# Altium footprint library Connector-Ethernet.PcbLib: 13 footprints
Each footprint in its own frame and in the unit in brackets; x right, y up, seen from the top. Pads: shape width x height; smd on the part's side, far side on the other; paste and mask are expansions set on the pad; w line width, h text height; cw(c..) or ccw(c..) is an arc to the next point about the centre after c.
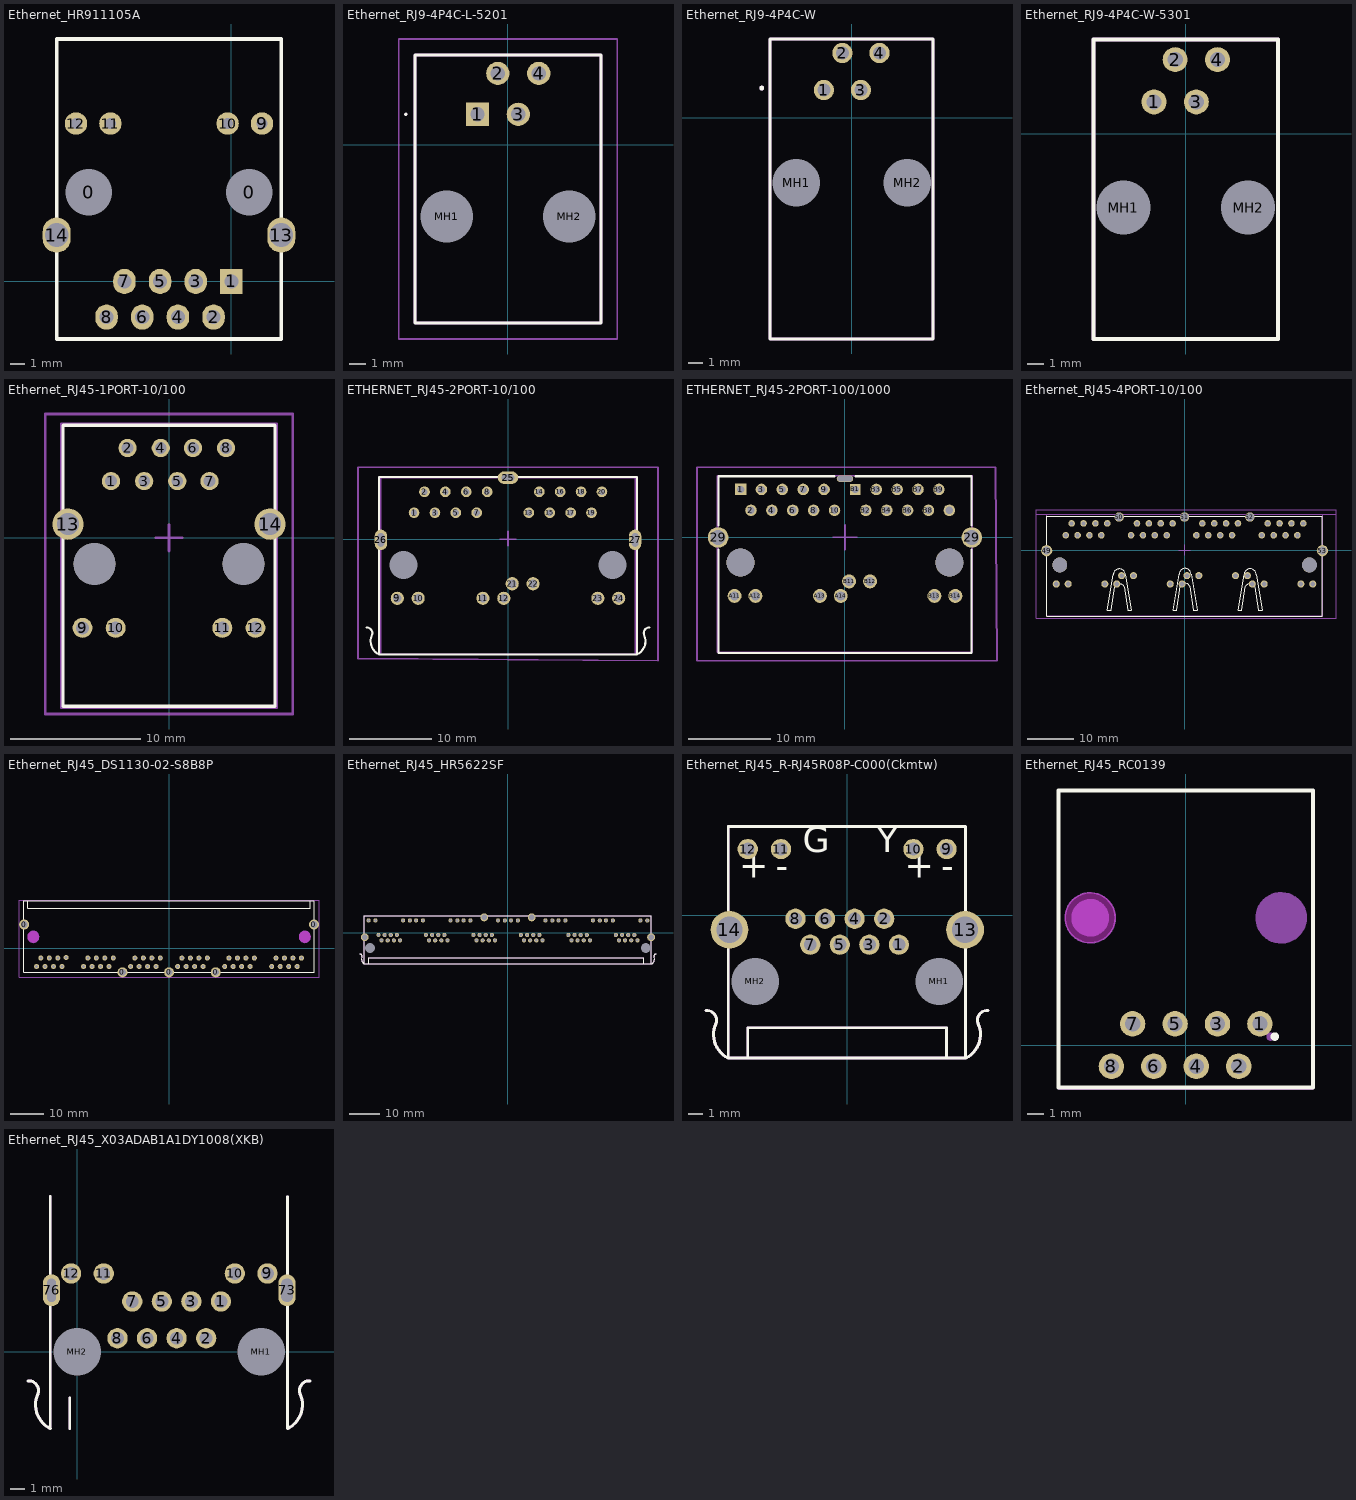
[diagram p0: the footprints below, top view; thin cyan lines are the x and y axes]

## Ethernet_HR911105A [mm]
pads (16):
  round 3.2 hole 3.3: 0(-10.16,6.35) 0(1.27,6.35)
  rect 1.6x1.8 hole 1: 1(0,0)
  oval 1.6x1.8 hole 1: 2(-1.27,-2.54) 3(-2.54,0) 4(-3.81,-2.54) 5(-5.08,0) 6(-6.35,-2.54) 7(-7.62,0) 8(-8.89,-2.54)
  round 1.6 hole 0.8: 9(2.18,11.25) 10(-0.27,11.25) 11(-8.62,11.25) 12(-11.07,11.25)
  oval 2x2.5 hole 1.7: 13(3.555,3.3) 14(-12.445,3.3)
Top Overlay:
  lines w0.254: 3.555,14.4 3.555,-4.1 ; -12.445,-4.1 -12.445,17.27 ; -12.445,-4.1 -12.445,14.4 -12.445,17.27 ; -12.445,-4.1 3.555,-4.1 ; -12.445,17.27 3.555,17.27 3.555,-4.1
Top Value:
  text "'.Comment'" at -13.178,7.111 h4
Top Designator:
  text "'.Designator'" at -16.084,7.138 h4
3D body "HR911105A.STEP": height 13.6, standoff -2.9, extent -12.324,-4.223 3.556,17.177

## Ethernet_RJ9-4P4C-L-5201 [mm] "RJ11/RJ9-4P4C 立式 EVERCOM(恒连) 5201-440111"
pads (6):
  rect 1.446x1.446 hole 0.89: 1(-1.9,1.905)
  round 1.446 hole 0.89: 2(-0.63,4.445) 3(0.64,1.905) 4(1.91,4.445)
  round 1.625 hole 3.25 unplated: MH1(-3.81,-4.445) MH2(3.81,-4.445)
Top Overlay:
  lines w0.1: -6.4,1.905 ccw(c-6.35,1.905) -6.3,1.905 ccw(c-6.35,1.905) -6.4,1.905
  lines w0.2: -5.78,-11.055 5.78,-11.055 5.78,5.585 -5.78,5.585 -5.78,-11.055
Top Value:
  text "'.Comment'" at 0.989,-10.273 h4
Top Designator:
  text "'.Designator'" at 0.692,-13.089 h4
Top Courtyard:
  lines w0.1: -6.78,-12.055 6.78,-12.055 6.78,6.585 -6.78,6.585 -6.78,-12.055
Top Assembly (Mech20):
  lines w0.1: -6.4,1.905 ccw(c-6.35,1.905) -6.3,1.905 ccw(c-6.35,1.905) -6.4,1.905
  lines w0.2: -5.78,-11.055 5.78,-11.055 5.78,5.585 -5.78,5.585 -5.78,-11.055
3D body "5558872-1.stp": height 16.3, standoff -3.51, extent -5.715,-10.99 5.715,5.52

## Ethernet_RJ9-4P4C-W [mm] "95009-7441,RJ9-4P4C 弯头"
pads (6):
  round 1.39 hole 0.89: 1(-1.905,1.905) 2(-0.635,4.445) 3(0.635,1.905) 4(1.905,4.445)
  round 2 hole 3.25 unplated: MH1(-3.81,-4.445) MH2(3.81,-4.445)
Top Overlay:
  circle w0.2: c-6.165,2.04 r0.066
  lines w0.2: -5.59,-15.165 5.59,-15.165 5.59,5.405 -5.59,5.405 -5.59,-15.165
Top Value:
  text "'.Comment'" at -0.739,5.858 h4
Top Designator:
  text "'.Designator'" at -0.442,8.674 h4
Top Assembly (Mech20):
  circle w0.2: c-6.165,2.04 r0.066
  lines w0.2: -5.59,-15.165 5.59,-15.165 5.59,5.405 -5.59,5.405 -5.59,-15.165
3D body "95009-7441.stp": height 15.89, standoff -3.56, extent -6.5,-15.115 6.38,5.455

## Ethernet_RJ9-4P4C-W-5301 [mil] "RJ11/RJ9 4P4 弯头 EVERCOM(恒连) 5301-4P4C"
pads (6):
  round 59 hole 36 mask+2: 1(-75,75) 2(-25,175) 3(25,75) 4(75,175)
  round 78.74 hole 127.95 unplated: MH1(-147.64,-175) MH2(147.64,-175)
Top Overlay:
  lines w10: -218.5,-486.02 218.5,-486.02 218.5,222.64 -218.5,222.64 -218.5,-486.02
Top Value:
  text "'.Comment'" at -38.94,220.58 h157.48
Top Designator:
  text "'.Designator'" at -27.25,331.46 h157.48
Bottom Courtyard:
  region: 219.69,221.46 219.69,222.44 218.3,223.82 216.35,223.82 214.96,222.44 214.96,221.46 214.96,220.48 216.35,219.1 218.3,219.1 219.69,220.48 219.69,221.46
  region: 87.6,175 87.6,177.51 85.68,182.14 82.14,185.68 77.51,187.6 72.49,187.6 67.86,185.68 64.32,182.14 62.4,177.51 62.4,175 62.4,172.49 64.32,167.86 67.86,164.32 72.49,162.4 77.51,162.4 82.14,164.32 85.68,167.86 87.6,172.49 87.6,175
  region: -12.4,175 -12.4,177.51 -14.32,182.14 -17.86,185.68 -22.49,187.6 -27.51,187.6 -32.14,185.68 -35.68,182.14 -37.6,177.51 -37.6,175 -37.6,172.49 -35.68,167.86 -32.14,164.32 -27.51,162.4 -22.49,162.4 -17.86,164.32 -14.32,167.86 -12.4,172.49 -12.4,175
  region: 37.6,75 37.6,77.51 35.68,82.14 32.14,85.68 27.51,87.6 22.49,87.6 17.86,85.68 14.32,82.14 12.4,77.51 12.4,75 12.4,72.49 14.32,67.86 17.86,64.32 22.49,62.4 27.51,62.4 32.14,64.32 35.68,67.86 37.6,72.49 37.6,75
  region: -62.4,75 -62.4,77.51 -64.32,82.14 -67.86,85.68 -72.49,87.6 -77.51,87.6 -82.14,85.68 -85.68,82.14 -87.6,77.51 -87.6,75 -87.6,72.49 -85.68,67.86 -82.14,64.32 -77.51,62.4 -72.49,62.4 -67.86,64.32 -64.32,67.86 -62.4,72.49 -62.4,75
  lines w2: 218.5,-486.02 -218.5,-486.02 -218.5,222.64 218.5,222.64
Top Assembly (Mech20):
  lines w10: -218.5,-486.02 218.5,-486.02 218.5,222.64 -218.5,222.64 -218.5,-486.02
3D body "User Library-RJ 4p4c.STEP": height 466.54, standoff -127.95, extent -220.08,-485 220.08,223.66

## Ethernet_RJ45-1PORT-10/100 [mm] "21.5X16.26-H13.6"
pads (16):
  round 1.4 hole 0.9: 1(-4.445,4.355) 2(-3.175,6.895) 3(-1.905,4.355) 4(-0.635,6.895) 5(0.635,4.355) 6(1.835,6.895) 7(3.105,4.355) 8(4.375,6.895)
  round 1.524 hole 1: 9(-6.63,-6.895) 10(-4.09,-6.895) 11(4.09,-6.895) 12(6.63,-6.895)
  round 2.4 hole 1.7: 13(-7.75,1.055) 14(7.75,1.055)
  round 3.2 hole 3.2 unplated: ""(-5.715,-1.995) ""(5.715,-1.995)
Top Overlay:
  lines w0.254: -8.128,-12.914 8.13,-12.914 8.13,8.636 -8.128,8.636 -8.128,-12.914
Top Component Outline:
  lines w0.2: -8.25,-13 -8.25,8.75 8.25,8.75 8.25,-13 -8.25,-13
Top Value:
  text "'.Comment'" at -8.678,-1.139 h4
Top Designator:
  text "'.Designator'" at -11.494,-0.842 h4
Top Courtyard:
  lines w0.2: -9.5,-13.5 -9.5,9.5 9.5,9.5 9.5,-13.5 -9.5,-13.5
Top Assembly (Mech20):
  lines w0.2: -1,0 1,0 ; 0,-1 0,1 ; -8.25,-13 -8.25,8.75 8.25,8.75 8.25,-13 -8.25,-13
3D body "HR911105A.STEP": height 13.6, standoff -2.9, extent -8.001,-12.822 7.879,8.578

## ETHERNET_RJ45-2PORT-10/100 [mm] "RJ45-TH_HR911205C,带灯,带变压器"
pads (29):
  round 1.3 hole 0.75: 1(-11.43,3.235) 2(-10.16,5.775) 3(-8.89,3.235) 4(-7.62,5.775) 5(-6.35,3.235) 6(-5.08,5.775) 7(-3.81,3.235) 8(-2.54,5.775) 13(2.538,3.235) 14(3.808,5.775) 15(5.078,3.235) 16(6.348,5.775) 17(7.618,3.235) 18(8.888,5.775) 19(10.158,3.235) 20(11.428,5.775)
  round 1.6 hole 1: 9(-13.47,-7.175) 10(-10.93,-7.175) 11(-3.05,-7.175) 12(-0.51,-7.175) 21(0.51,-5.405) 22(3.05,-5.405) 23(10.93,-7.175) 24(13.47,-7.175)
  oval 2.5x1.5 hole 0.8 slot 1.5 at 0 deg: 25(0,7.5)
  oval 1.5x2.5 hole 0.8 slot 1.63 at 90 deg: 26(-15.465,-0.065) 27(15.465,-0.065)
  round 3 hole 3.4 unplated: ""(-12.7,-3.115) ""(12.7,-3.115)
Top Overlay:
  lines w0.254: -17.23,-10.72 cw(c-17.181,-11.392) -16.542,-11.603 ; -16.54,-11.6 ccw(c-14.885,-12.374) -15.692,-14.013 ; -15.7,7.485 -15.7,-14.015 15.7,-14.015 15.7,7.585 -15.7,7.585 ; 15.701,-14.008 ccw(c14.894,-12.369) 16.549,-11.594 ; 16.551,-11.598 cw(c17.19,-11.386) 17.239,-10.714
Top Component Outline:
  lines w0.2: -15.5,-14 -15.5,7.5 ; -15.5,-14 15.5,-14 ; -15.5,-14 -15.5,7.5 ; -15.5,-14 15.5,-14 ; -15.5,7.5 15.5,7.5 ; -15.5,7.5 15.5,7.5 ; 15.5,-14 15.5,7.5 ; 15.5,-14 15.5,7.5
Top Value:
  text "'.Comment'" at -8.678,-1.224 h4
Top Designator:
  text "'.Designator'" at -11.494,-0.927 h4
Top Courtyard:
  lines w0.2: -18.25,-14.5 -18.25,8.75 18.25,8.75 18.25,-14.75 -18.25,-14.5
Top Assembly (Mech20):
  lines w0.2: -1,0 1,0 ; 0,-0.75 0,1 ; -15.5,-14 -15.5,7.5 15.5,7.5 15.5,-14 -15.5,-14
3D body "c-2337994-4-a-3d.stp": height 15.18, standoff -3.75, extent -17.3,-13.75 17.3,7.6

## ETHERNET_RJ45-2PORT-100/1000 [mm] "带灯，带变压器"
pads (33):
  rect 1.4x1.4 hole 0.9: 1(-12.7,5.82)
  round 1.4 hole 0.9: 2(-11.43,3.28) 3(-10.16,5.82) 4(-8.89,3.28) 5(-7.62,5.82) 6(-6.35,3.28) 7(-5.08,5.82) 8(-3.81,3.28) 9(-2.54,5.82) 10(-1.27,3.28) B2(2.54,3.28) B3(3.81,5.82) B4(5.08,3.28) B5(6.35,5.82) B6(7.62,3.28) B7(8.89,5.82) B8(10.16,3.28) B9(11.43,5.82) B10(12.7,3.28)
  round 2.5 hole 1.8: 29(-15.435,-0.02) 29(15.435,-0.02)
  oval 2x0.8 hole 0.6 slot 1.8 at 0 deg: 29(0,7.13)
  round 1.7 hole 1.1: A11(-13.43,-7.13) A12(-10.89,-7.13) A13(-3.05,-7.13) A14(-0.51,-7.13) B11(0.51,-5.36) B12(3.05,-5.36) B13(10.89,-7.13) B14(13.43,-7.13)
  rect 1.3x1.3 hole 0.9: B1(1.27,5.82)
  round 3.4 hole 3.4 unplated: ""(-12.7,-3.07) ""(12.7,-3.07)
Top Overlay:
  lines w0.254: -15.4,-1.501 -15.4,-14.07 15.4,-14.07 15.4,-1.501 ; -15.4,1.461 -15.4,7.43 -1.267,7.43 ; 1.267,7.43 15.4,7.43 15.4,1.461
Top Component Outline:
  lines w0.2: -15.5,-14 -15.5,7.5 15.5,7.5 15.5,-14 -15.5,-14
Top Value:
  text "'.Comment'" at -8.678,-1.159 h4
Top Designator:
  text "'.Designator'" at -11.494,-0.862 h4
Top Courtyard:
  lines w0.2: -18,-15 18.5,-15 18.312,8.5 -18,8.5 -18,-15
Top Assembly (Mech20):
  lines w0.2: -1.5,0 1.5,0 ; 0,-1.5 0,1.5 ; -15.5,-14 15.5,-14 15.5,7.5 -15.5,7.5 -15.5,-14
3D body "c-5-2337994-4-a-3d.stp": height 15.18, standoff -3.75, extent -17.3,-13.857 17.3,7.493

## Ethernet_RJ45-4PORT-10/100 [mm] "21.5X59.12-H13.6"
pads (55):
  round 1.4 hole 0.9: 1(-25.4,3.255) 2(-24.13,5.795) 3(-22.86,3.255) 4(-21.59,5.795) 5(-20.32,3.255) 6(-19.05,5.795) 7(-17.78,3.255) 8(-16.51,5.795) 13(-11.43,3.255) 14(-10.16,5.795) 15(-8.89,3.255) 16(-7.62,5.795) 17(-6.35,3.255) 18(-5.08,5.795) 19(-3.81,3.255) 20(-2.54,5.795) 25(2.54,3.255) 26(3.81,5.795) 27(5.08,3.255) 28(6.35,5.795) 29(7.62,3.255) 30(8.89,5.795) 31(10.16,3.255) 32(11.43,5.795) 37(16.51,3.255) 38(17.78,5.795) 39(19.05,3.255) 40(20.32,5.795) 41(21.59,3.255) 42(22.86,5.795) 43(24.13,3.255) 44(25.4,5.795)
  round 1.524 hole 1: 9(-27.42,-7.155) 10(-24.88,-7.155) 11(-17.03,-7.155) 12(-14.49,-7.155) 21(-13.45,-5.375) 22(-10.91,-5.375) 23(-3.06,-7.155) 24(-0.52,-7.155) 33(0.52,-5.375) 34(3.06,-5.375) 35(10.91,-5.375) 36(13.45,-5.375) 45(14.49,-7.155) 46(17.03,-7.155) 47(24.88,-7.155) 48(27.42,-7.155)
  round 2.4 hole 1.7: 49(-29.465,-0.045) 53(29.465,-0.045)
  round 2 hole 1.7: 50(-13.97,7.155) 51(0,7.155) 52(13.97,7.155)
  round 3.2 hole 3.2 unplated: ""(-26.67,-3.095) ""(26.67,-3.095)
Top Overlay:
  lines w0.254: -1.27,7.322 29.464,7.322 29.464,-14.014 -29.464,-14.014 -29.464,7.322 0,7.322 ; -16.475,-12.818 -15.713,-12.818 -14.951,-7.738 cw(c-13.935,-8.246) -12.919,-7.738 -12.156,-12.818 -11.395,-12.818 -12.664,-5.198 ccw(c-13.935,-5.198) -15.205,-5.198 -16.474,-12.818 ; -2.411,-12.724 -1.649,-12.724 -0.887,-7.644 cw(c0.129,-8.152) 1.145,-7.644 1.907,-12.724 2.669,-12.724 1.399,-5.104 ccw(c0.129,-5.104) -1.141,-5.104 -2.411,-12.724 ; 11.493,-12.79 12.255,-12.79 13.017,-7.71 cw(c14.033,-8.218) 15.049,-7.71 15.811,-12.79 16.573,-12.79 15.303,-5.17 ccw(c14.033,-5.17) 12.763,-5.17 11.493,-12.79
Top Component Outline:
  lines w0.152: -29.5,-14 -29.5,7.7 29.5,7.7 29.5,-14 -29.5,-14
Top Value:
  text "'.Comment'" at -8.678,-1.139 h4
Top Designator:
  text "'.Designator'" at -11.494,-0.842 h4
Top Courtyard:
  lines w0.152: -31.75,-14.525 -31.75,8.75 32.385,8.75 32.385,-14.525 -31.75,-14.525
Top Assembly (Mech20):
  lines w0.152: -31.75,-14.525 -31.75,7.7 32.385,7.7 32.385,-14.525 -31.75,-14.525
  lines w0.2: -1.25,0 1.25,0 ; 0,-1 0,1.25
3D body "64F-1204GYD2NL--20191216.stp": height 2.95, standoff -15.85, extent -31.333,-14.017 31.587,7.483

## Ethernet_RJ45_DS1130-02-S8B8P [mm]
pads (53):
  round 3 hole 2 mask+0.051: 0(-43.375,7.155) 0(-13.97,-7.155) 0(0,-7.155) 0(13.97,-7.155) 0(43.375,7.155)
  round 1.5 hole 0.9 mask+0.051: 1(-39.68,-5.415) 2(-38.41,-2.875) 3(-37.14,-5.415) 4(-35.87,-2.875) 5(-34.6,-5.415) 6(-33.33,-2.875) 7(-32.06,-5.415) 8(-30.831,-2.705) 9(-25.601,-5.415) 10(-24.331,-2.875) 11(-23.061,-5.415) 12(-21.791,-2.875) 13(-20.521,-5.415) 14(-19.251,-2.875) 15(-17.981,-5.415) 16(-16.711,-2.875) 17(-11.519,-5.415) 18(-10.249,-2.875) 19(-8.979,-5.415) 20(-7.709,-2.875) 21(-6.439,-5.415) 22(-5.169,-2.875) 23(-3.899,-5.415) 24(-2.629,-2.875) 25(2.56,-5.415) 26(3.83,-2.875) 27(5.1,-5.415) 28(6.37,-2.875) 29(7.64,-5.415) 30(8.91,-2.875) 31(10.18,-5.415) 32(11.45,-2.875) 33(16.64,-5.415) 34(17.91,-2.875) 35(19.18,-5.415) 36(20.45,-2.875) 37(21.72,-5.415) 38(22.99,-2.875) 39(24.26,-5.415) 40(25.53,-2.875) 41(30.719,-5.415) 42(31.989,-2.875) 43(33.259,-5.415) 44(34.529,-2.875) 45(35.799,-5.415) 46(37.069,-2.875) 47(38.339,-5.415) 48(39.609,-2.875)
Top Overlay:
  lines w0.254: -42.27,14.226 -42.27,11.976 42.27,11.976 42.27,14.226 ; -43.5,-7.154 43.494,-7.154 43.494,14.246 -43.5,14.246 -43.5,-7.154
Keep-Out Layer:
  board cut-out: 38.94,3.475 38.94,3.308 39.005,2.979 39.133,2.67 39.32,2.391 39.556,2.154 39.835,1.968 40.144,1.84 40.473,1.775 40.64,1.775 40.807,1.775 41.136,1.84 41.445,1.968 41.724,2.154 41.96,2.391 42.147,2.67 42.275,2.979 42.34,3.308 42.34,3.475 42.34,3.642 42.275,3.971 42.147,4.28 41.96,4.559 41.724,4.795 41.445,4.981 41.136,5.11 40.807,5.175 40.64,5.175 40.473,5.175 40.144,5.11 39.835,4.981 39.556,4.795 39.32,4.559 39.133,4.28 39.005,3.971 38.94,3.642
  board cut-out: -40.64,1.775 -40.807,1.775 -41.136,1.84 -41.445,1.968 -41.724,2.154 -41.96,2.391 -42.147,2.67 -42.275,2.979 -42.34,3.308 -42.34,3.475 -42.34,3.642 -42.275,3.971 -42.147,4.28 -41.96,4.559 -41.724,4.795 -41.445,4.981 -41.136,5.11 -40.807,5.175 -40.64,5.175 -40.473,5.175 -40.144,5.11 -39.835,4.981 -39.556,4.795 -39.32,4.559 -39.133,4.28 -39.005,3.971 -38.94,3.642 -38.94,3.475 -38.94,3.308 -39.005,2.979 -39.133,2.67 -39.32,2.391 -39.556,2.154 -39.835,1.968 -40.144,1.84 -40.473,1.775
  board cut-out: -38.94,3.475 -38.94,3.642 -39.005,3.971 -39.133,4.28 -39.32,4.559 -39.556,4.795 -39.835,4.981 -40.144,5.11 -40.473,5.175 -40.807,5.175 -41.136,5.11 -41.445,4.981 -41.724,4.795 -41.96,4.559 -42.147,4.28 -42.275,3.971 -42.34,3.642 -42.34,3.475 -42.34,3.308 -42.275,2.979 -42.147,2.67 -41.96,2.391 -41.724,2.154 -41.445,1.968 -41.136,1.84 -40.807,1.775 -40.473,1.775 -40.144,1.84 -39.835,1.968 -39.556,2.154 -39.32,2.391 -39.133,2.67 -39.005,2.979 -38.94,3.308 -38.94,3.475
  board cut-out: 42.34,3.475 42.34,3.642 42.275,3.971 42.147,4.28 41.96,4.559 41.724,4.795 41.445,4.981 41.136,5.11 40.807,5.175 40.473,5.175 40.144,5.11 39.835,4.981 39.556,4.795 39.32,4.559 39.133,4.28 39.005,3.971 38.94,3.642 38.94,3.475 38.94,3.308 39.005,2.979 39.133,2.67 39.32,2.391 39.556,2.154 39.835,1.968 40.144,1.84 40.473,1.775 40.807,1.775 41.136,1.84 41.445,1.968 41.724,2.154 41.96,2.391 42.147,2.67 42.275,2.979 42.34,3.308 42.34,3.475
Board Outline:
  circle w0.005: c-40.64,3.475 r1.7
  circle w0.005: c40.64,3.475 r1.7
Top Value:
  text "'.Comment'" at -8.678,2.591 h4
Top Designator:
  text "'.Designator'" at -11.494,2.888 h4
Top Assembly (Mech20):
  drawing of 60 lines, arcs and shapes, not listed
3D body "09455511126.stp": height 13.6, standoff -4.2, extent -43.52,-7 43.52,14.27

## Ethernet_RJ45_HR5622SF [mm] "HR5622SF-168801B-21-1R,6位带灯RJ45"
pads (78):
  round 1.4 hole 0.89: 1(-35.805,-2.545) 2(-36.825,-0.755) 3(-37.845,-2.545) 4(-38.865,-0.755) 5(-39.885,-2.545) 6(-40.905,-0.755) 7(-41.925,-2.545) 8(-42.945,-0.755) 9(-32.515,4.055) 10(-34.805,4.055) 11(-43.945,4.055) 12(-46.235,4.055) 13(-20.055,-2.545) 14(-21.075,-0.755) 15(-22.095,-2.545) 16(-23.115,-0.755) 17(-24.135,-2.545) 18(-25.155,-0.755) 19(-26.175,-2.545) 20(-27.195,-0.755) 21(-16.765,4.055) 22(-19.055,4.055) 23(-28.195,4.055) 24(-30.485,4.055) 25(-4.305,-2.545) 26(-5.325,-0.755) 27(-6.345,-2.545) 28(-7.365,-0.755) 29(-8.385,-2.545) 30(-9.405,-0.755) 31(-10.425,-2.545) 32(-11.445,-0.755) 33(-1.015,4.055) 34(-3.305,4.055) 35(-12.445,4.055) 36(-14.735,4.055) 37(11.445,-2.545) 38(10.425,-0.755) 39(9.405,-2.545) 40(8.385,-0.755) 41(7.365,-2.545) 42(6.345,-0.755) 43(5.325,-2.545) 44(4.305,-0.755) 45(14.735,4.055) 46(12.445,4.055) 47(3.305,4.055) 48(1.015,4.055) 49(27.195,-2.545) 50(26.175,-0.755) 51(25.155,-2.545) 52(24.135,-0.755) 53(23.115,-2.545) 54(22.095,-0.755) 55(21.075,-2.545) 56(20.055,-0.755) 57(30.485,4.055) 58(28.195,4.055) 59(19.055,4.055) 60(16.765,4.055) 61(42.945,-2.545) 62(41.925,-0.755) 63(40.905,-2.545) 64(39.885,-0.755) 65(38.865,-2.545) 66(37.845,-0.755) 67(36.825,-2.545) 68(35.805,-0.755) 69(46.235,4.055) 70(43.945,4.055) 71(34.805,4.055) 72(32.515,4.055)
  round 2.6 hole 1.8: 73(47.5,-1.515) 74(7.875,5.075) 75(-7.875,5.075) 76(-47.5,-1.515)
  round 1.4 hole 3.25 unplated: MH1(45.72,-5.075) MH2(-45.72,-5.075)
Top Overlay:
  lines w0.2: -49.116,-7.085 cw(c-49.067,-7.757) -48.428,-7.969 ; -48.426,-7.966 ccw(c-46.771,-8.74) -47.578,-10.379 ; -46.238,-10.375 -46.238,-8.278 45.01,-8.278 ccw(c45.01,-8.272) 45.014,-8.276 45.014,-10.375 ; 47.614,5.625 47.614,-10.375 -47.586,-10.375 -47.586,5.625 47.615,5.625 ; 47.615,-10.368 ccw(c46.808,-8.729) 48.463,-7.954 ; 48.465,-7.958 cw(c49.105,-7.746) 49.153,-7.074
Top Value:
  text "'.Comment'" at -8.514,-4.085 h4
Top Designator:
  text "'.Designator'" at -11.33,-3.788 h4
Top Assembly (Mech20):
  lines w0.2: -49.116,-7.085 cw(c-49.067,-7.757) -48.428,-7.969 ; -48.426,-7.966 ccw(c-46.771,-8.74) -47.578,-10.379 ; -46.238,-10.375 -46.238,-8.278 45.01,-8.278 ccw(c45.01,-8.272) 45.014,-8.276 45.014,-10.375 ; 47.614,5.625 47.614,-10.375 -47.586,-10.375 -47.586,5.625 47.615,5.625 ; 47.615,-10.368 ccw(c46.808,-8.729) 48.463,-7.954 ; 48.465,-7.958 cw(c49.105,-7.746) 49.153,-7.074
3D body "X12BDDB2A1DY1027.stp": height 15, standoff -3.27, extent -48.995,-10.375 -14.055,5.625
3D body "X12BDDB2A1DY1027.stp": height 15, standoff -3.27, extent -17.495,-10.375 17.445,5.625
3D body "X12BDDB2A1DY1027.stp": height 15, standoff -3.27, extent 14.005,-10.375 48.945,5.625

## Ethernet_RJ45_R-RJ45R08P-C000(Ckmtw) [mm] "1位带灯RJ45 卡扣在上"
pads (16):
  round 1.4 hole 0.89: 1(3.565,-2.035) 2(2.545,-0.245) 3(1.525,-2.035) 4(0.505,-0.245) 5(-0.515,-2.035) 6(-1.535,-0.245) 7(-2.555,-2.035) 8(-3.575,-0.245) 9(6.855,4.565) 10(4.565,4.565) 11(-4.575,4.565) 12(-6.865,4.565)
  round 2.6 hole 1.8: 13(8.13,-1.005) 14(-8.13,-1.005)
  round 1.4 hole 3.25 unplated: MH1(6.35,-4.565) MH2(-6.35,-4.565)
Top Overlay:
  lines w0.2: -9.746,-6.575 cw(c-9.697,-7.247) -9.058,-7.459 ; -9.056,-7.456 ccw(c-7.401,-8.23) -8.208,-9.869 ; -6.868,-9.865 -6.868,-7.768 6.855,-7.768 6.855,-9.865 ; 8.169,-9.872 8.169,6.128 ; 8.169,-9.865 -8.216,-9.865 -8.216,6.135 8.169,6.135 ; 8.17,-9.865 ccw(c7.363,-8.226) 9.018,-7.452 ; 9.02,-7.455 cw(c9.659,-7.243) 9.708,-6.572
  text "Y" at 2.04,3.772 h3
  text "G" at -3.06,3.772 h3
  text "-" at -4.949,2.004 h3
  text "+" at -7.466,2.005 h3
  text "-" at 6.484,2.004 h3
  text "+" at 3.967,2.005 h3
Top Value:
  text "'.Comment'" at -8.818,-1.954 h4
Top Designator:
  text "'.Designator'" at -11.724,-1.927 h4
Top Assembly (Mech20):
  lines w0.2: -9.746,-6.575 cw(c-9.697,-7.247) -9.058,-7.459 ; -9.056,-7.456 ccw(c-7.401,-8.23) -8.208,-9.869 ; -6.868,-9.865 -6.868,-7.768 6.855,-7.768 6.855,-9.865 ; 8.169,-9.872 8.169,6.128 ; 8.169,-9.865 -8.216,-9.865 -8.216,6.135 8.169,6.135 ; 8.17,-9.865 ccw(c7.363,-8.226) 9.018,-7.452 ; 9.02,-7.455 cw(c9.659,-7.243) 9.708,-6.572
  text "-" at -4.949,2.004 h3
  text "+" at -7.466,2.005 h3
  text "-" at 6.484,2.004 h3
  text "+" at 3.967,2.005 h3

## Ethernet_RJ45_RC0139 [mil] "XKB_X31ADIWA3DY1027"
pads (8):
  round 60 hole 36 mask+1.97: 1(175.01,50) 2(125.01,-50) 3(74.99,50) 4(25,-50) 5(-25,50) 6(-75,-50) 7(-125.01,50) 8(-175.01,-50)
Top Overlay:
  circle w9.84: c210,20 r5
  lines w9.84: -300,-100 -300,600 300,600 300,-100 -300,-100
Keep-Out Layer:
  board cut-out: -225,240.94 -230.82,240.94 -242.23,243.21 -252.97,247.67 -262.65,254.13 -270.87,262.35 -277.33,272.03 -281.79,282.77 -284.06,294.18 -284.06,300 -284.06,305.82 -281.79,317.23 -277.33,327.97 -270.87,337.65 -262.65,345.87 -252.97,352.33 -242.23,356.79 -230.82,359.06 -225,359.06 -219.18,359.06 -207.77,356.79 -197.03,352.33 -187.35,345.87 -179.13,337.65 -172.67,327.97 -168.21,317.23 -165.95,305.82 -165.95,300 -165.95,294.18 -168.21,282.77 -172.67,272.03 -179.13,262.35 -187.35,254.13 -197.03,247.67 -207.77,243.21 -219.18,240.94
Board Outline:
  circle w3.94: c225,300 r59.06
  circle w3.94: c-225,300 r59.06
  pour cut-out: 225,240.94 219.18,240.94 207.77,243.21 197.03,247.67 187.35,254.13 179.13,262.35 172.67,272.03 168.21,282.77 165.94,294.18 165.94,300 165.94,305.82 168.21,317.23 172.67,327.97 179.13,337.65 187.35,345.87 197.03,352.33 207.77,356.79 219.18,359.06 225,359.06 230.82,359.06 242.23,356.79 252.97,352.33 262.64,345.87 270.87,337.65 277.33,327.97 281.79,317.23 284.05,305.82 284.05,300 284.05,294.18 281.79,282.77 277.33,272.03 270.87,262.35 262.64,254.13 252.97,247.67 242.23,243.21 230.82,240.94
Top Component Center:
  circle w9.84: c200,20 r5
  circle w44.29: c-225,300 r22.17
  circle w44.29: c225,300 r22.17
Top Value:
  text "'.Comment'" at -341.65,198.46 h157.48
Top Designator:
  text "'.Designator'" at -452.53,210.16 h157.48
Top Assembly (Mech20):
  drawing of 13 lines, arcs and shapes, not listed
3D body "X31ADIWA3DY1027.stp": height 513.78, standoff -82.68, extent -299.21,-109.45 295.27,591.34

## Ethernet_RJ45_X03ADAB1A1DY1008(XKB) [mm] "立式 RJ45 带灯"
pads (16):
  round 1.4 hole 0.89: 1(9.915,3.47) 2(8.895,0.93) 3(7.875,3.47) 4(6.855,0.93) 5(5.835,3.47) 6(4.815,0.93) 7(3.795,3.47) 8(2.775,0.93) 9(13.125,5.4) 10(10.875,5.4) 11(1.825,5.4) 12(-0.425,5.4)
  oval 1.2x2.2 hole 0.8 slot 1.6 at 90 deg: 73(14.475,4.24)
  oval 1.2x2.2 hole 0.6 slot 1.6 at 90 deg: 76(-1.775,4.24)
  round 1.4 hole 3.25 unplated: MH1(12.7,0) MH2(0,0)
Top Overlay:
  lines w0.2: -3.396,-2.01 cw(c-3.347,-2.682) -2.708,-2.894 ; -2.706,-2.891 ccw(c-1.051,-3.665) -1.858,-5.304 ; -1.866,-5.3 -1.866,10.7 ; -0.518,-5.3 -0.518,-3.203 ; 14.519,-5.307 14.519,10.693 ; 14.52,-5.3 ccw(c13.713,-3.661) 15.368,-2.887 ; 15.37,-2.89 cw(c16.009,-2.678) 16.058,-2.007
Top Assembly (Mech20):
  lines w0.2: -3.396,-2.01 cw(c-3.347,-2.682) -2.708,-2.894 ; -2.706,-2.891 ccw(c-1.051,-3.665) -1.858,-5.304 ; -1.866,-5.3 -1.866,10.7 ; -0.518,-5.3 -0.518,-3.203 ; 14.519,-5.307 14.519,10.693 ; 14.52,-5.3 ccw(c13.713,-3.661) 15.368,-2.887 ; 15.37,-2.89 cw(c16.009,-2.678) 16.058,-2.007
3D body "X03ADAB1A1DY1008.stp": height 15.9, standoff -3.78, extent -2.038,-2.45 14.562,10.85